# Altium schematic symbol library Conectores.SchLib: 54 symbols
Pins are listed as number, name and electrical type; pins without a type are passive.

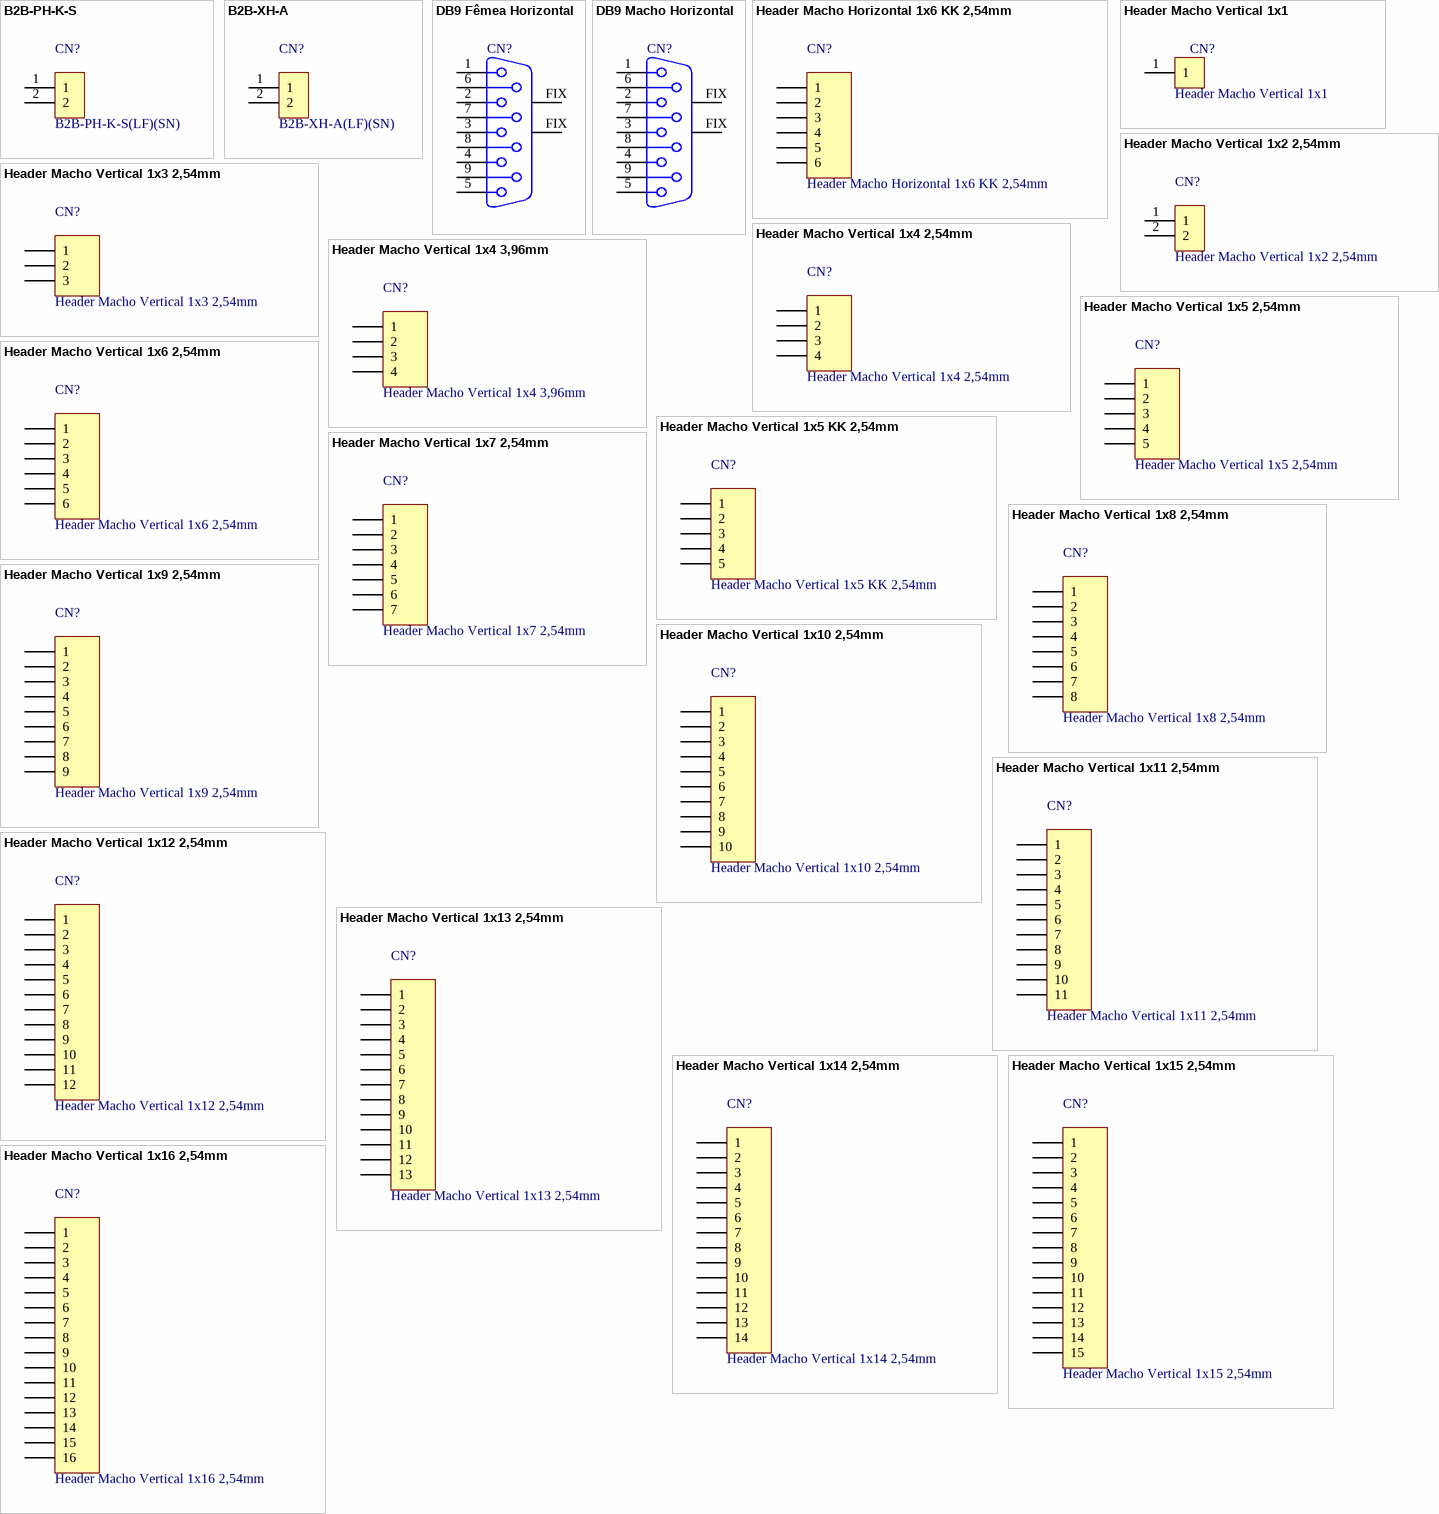
[diagram p0: symbols B2B-PH-K-S to Header Macho Vertical 1x16 2,54mm]

## B2B-PH-K-S
designator CN?  Valor/Partnumber: B2B-PH-K-S(LF)(SN)  (hidden comment: B2B-PH-K-S)
CONN HEADER VERT 2POS 2MM; Montagem: PTH
footprint B2B-PH-K-S (Footprint not found)
pins: 1, 2

## B2B-XH-A
designator CN?  Valor/Partnumber: B2B-XH-A(LF)(SN)  (hidden comment: B2B-XH-A)
CONN HEADER VERT 2POS 2.5MM; Montagem: PTH
footprint B2B-XH-A
pins: 1, 2

## DB9 Fêmea Horizontal
designator CN?  (value not drawn)
Montagem: PTH; Valor/Partnumber: DB9 Fêmea Horizontal
footprint DB9_Female_PTH (DB9, Female, 90º, PTH)
pins: 1, 2, 3, 4, 5, 6, 7, 8, 9, FIX MH2, FIX MH1

## DB9 Macho Horizontal
designator CN?  (value not drawn)
Montagem: PTH; Valor/Partnumber: DB9 Macho Horizontal
footprint DB9_Male_PTH (DB9, Male, 90º, PTH)
pins: 1, 2, 3, 4, 5, 6, 7, 8, 9, FIX MH2, FIX MH1

## Header Macho Horizontal 1x6 KK 2,54mm
designator CN?
Header Macho Horizontal com trava KK 1x6 2,54mm; Montagem: PTH; Valor/Partnumber: Header Macho Horizontal 1x6 KK 2,54mm
footprint HDR1X6HKK (Connector; Header; 6 Position; Right Angle)
pins: 1, 2, 3, 4, 5, 6

## Header Macho Vertical 1x1
designator CN?
Montagem: PTH; Valor/Partnumber: Header Macho Vertical 1x1
footprint HDR1X1 (Connector; Header; 1 Position)
pins: 1

## Header Macho Vertical 1x2 2,54mm
designator CN?
Montagem: PTH; Valor/Partnumber: Header Macho Vertical 1x2 2,54mm
footprint HDR1X2 (Connector; Header; 2 Position)
pins: 1, 2

## Header Macho Vertical 1x3 2,54mm
designator CN?
Montagem: PTH; Valor/Partnumber: Header Macho Vertical 1x3 2,54mm
footprint HDR1X3 (Connector; Header; 3 Position)
pins: 1, 2, 3

## Header Macho Vertical 1x4 2,54mm
designator CN?
Montagem: PTH; Valor/Partnumber: Header Macho Vertical 1x4 2,54mm
footprint HDR1X4 (Connector; Header; 4 Position)
pins: 1, 2, 3, 4

## Header Macho Vertical 1x4 3,96mm
designator CN?
Montagem: PTH; Valor/Partnumber: Header Macho Vertical 1x4 3,96mm
footprint HDR1X4KKzao (3.96)
pins: 1, 2, 3, 4

## Header Macho Vertical 1x5 2,54mm
designator CN?
Montagem: PTH; Valor/Partnumber: Header Macho Vertical 1x5 2,54mm
footprint HDR1X5 (Connector; Header; 5 Position)
pins: 1, 2, 3, 4, 5

## Header Macho Vertical 1x5 KK 2,54mm
designator CN?
Header Macho Vertical com trava KK 1x5 2,54mm; Montagem: PTH; Valor/Partnumber: Header Macho Vertical 1x5 KK 2,54mm
footprint HDR1X5KK (Connector; Header; 5 Position)
pins: 1, 2, 3, 4, 5

## Header Macho Vertical 1x6 2,54mm
designator CN?
Montagem: PTH; Valor/Partnumber: Header Macho Vertical 1x6 2,54mm
footprint HDR1X6 (Connector; Header; 6 Position)
pins: 1, 2, 3, 4, 5, 6

## Header Macho Vertical 1x7 2,54mm
designator CN?
Montagem: PTH; Valor/Partnumber: Header Macho Vertical 1x7 2,54mm
footprint HDR1X7 (Connector; Header; 7 Position)
pins: 1, 2, 3, 4, 5, 6, 7

## Header Macho Vertical 1x8 2,54mm
designator CN?
Montagem: PTH; Valor/Partnumber: Header Macho Vertical 1x8 2,54mm
footprint HDR1X8 (Connector; Header; 8 Position)
pins: 1, 2, 3, 4, 5, 6, 7, 8

## Header Macho Vertical 1x9 2,54mm
designator CN?
Montagem: PTH; Valor/Partnumber: Header Macho Vertical 1x9 2,54mm
footprint HDR1X9 (Connector; Header; 9 Position)
pins: 1, 2, 3, 4, 5, 6, 7, 8, 9

## Header Macho Vertical 1x10 2,54mm
designator CN?
Montagem: PTH; Valor/Partnumber: Header Macho Vertical 1x10 2,54mm
footprint HDR1X10 (Connector; Header; 10 Position)
pins: 1, 2, 3, 4, 5, 6, 7, 8, 9, 10

## Header Macho Vertical 1x11 2,54mm
designator CN?
Montagem: PTH; Valor/Partnumber: Header Macho Vertical 1x11 2,54mm
footprint HDR1X11 (Connector; Header; 11 Position)
pins: 1, 2, 3, 4, 5, 6, 7, 8, 9, 10, 11

## Header Macho Vertical 1x12 2,54mm
designator CN?
Montagem: PTH; Valor/Partnumber: Header Macho Vertical 1x12 2,54mm
footprint HDR1X12 (Connector; Header; 12 Position)
pins: 1, 2, 3, 4, 5, 6, 7, 8, 9, 10, 11, 12

## Header Macho Vertical 1x13 2,54mm
designator CN?
Montagem: PTH; Valor/Partnumber: Header Macho Vertical 1x13 2,54mm
footprint HDR1X13 (Connector; Header; 13 Position)
pins: 1, 2, 3, 4, 5, 6, 7, 8, 9, 10, 11, 12, 13

## Header Macho Vertical 1x14 2,54mm
designator CN?
Montagem: PTH; Valor/Partnumber: Header Macho Vertical 1x14 2,54mm
footprint HDR1X14 (Connector; Header; 14 Position)
pins: 1, 2, 3, 4, 5, 6, 7, 8, 9, 10, 11, 12, 13, 14

## Header Macho Vertical 1x15 2,54mm
designator CN?
Montagem: PTH; Valor/Partnumber: Header Macho Vertical 1x15 2,54mm
footprint HDR1X15 (Connector; Header; 15 Position)
pins: 1, 2, 3, 4, 5, 6, 7, 8, 9, 10, 11, 12, 13, 14, 15

## Header Macho Vertical 1x16 2,54mm
designator CN?
Montagem: PTH; Valor/Partnumber: Header Macho Vertical 1x16 2,54mm
footprint HDR1X16 (Connector; Header; 16 Position)
pins: 1, 2, 3, 4, 5, 6, 7, 8, 9, 10, 11, 12, 13, 14, 15, 16

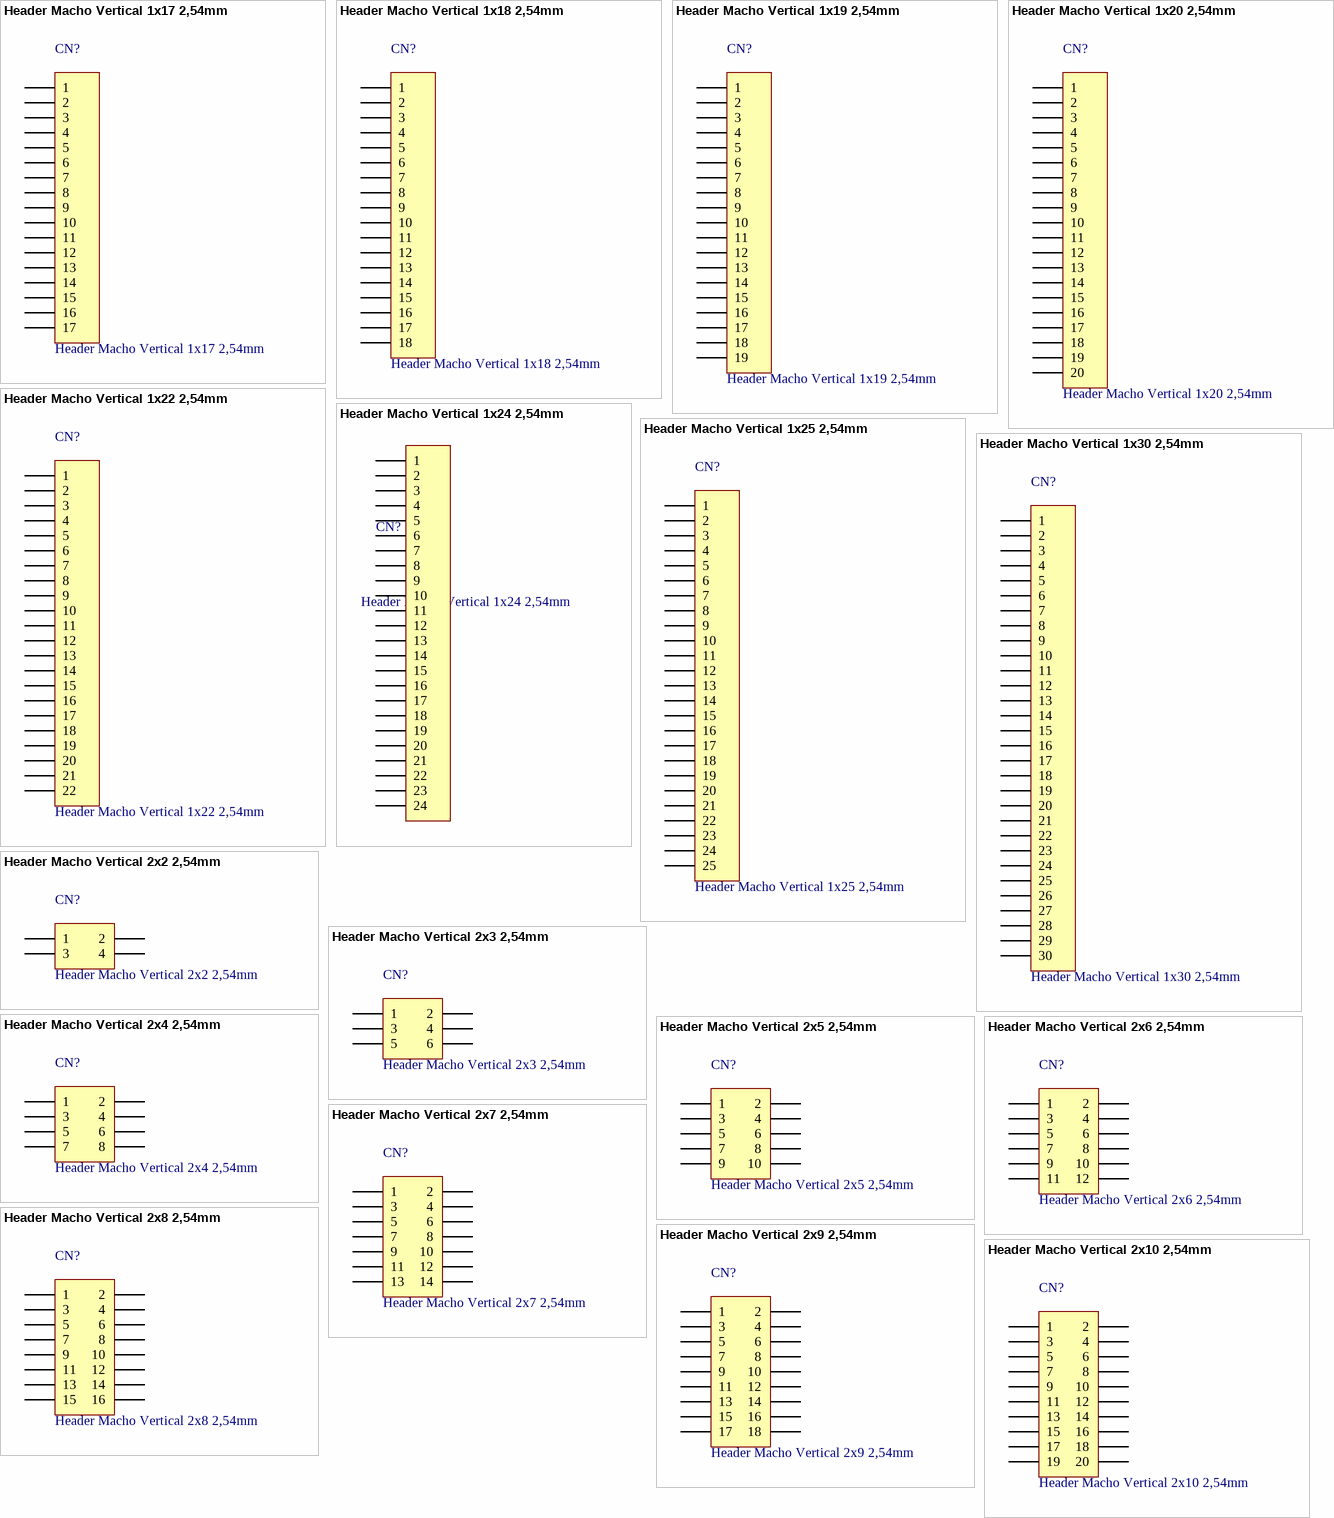
[diagram p1: symbols Header Macho Vertical 1x17 2,54mm to Header Macho Vertical 2x10 2,54mm]

## Header Macho Vertical 1x17 2,54mm
designator CN?
Montagem: PTH; Valor/Partnumber: Header Macho Vertical 1x17 2,54mm
footprint HDR1X17 (Connector; Header; 17 Position)
pins: 1, 2, 3, 4, 5, 6, 7, 8, 9, 10, 11, 12, 13, 14, 15, 16, 17

## Header Macho Vertical 1x18 2,54mm
designator CN?
Montagem: PTH; Valor/Partnumber: Header Macho Vertical 1x18 2,54mm
footprint HDR1X18 (Connector; Header; 18 Position)
pins: 1, 2, 3, 4, 5, 6, 7, 8, 9, 10, 11, 12, 13, 14, 15, 16, 17, 18

## Header Macho Vertical 1x19 2,54mm
designator CN?
Montagem: PTH; Valor/Partnumber: Header Macho Vertical 1x19 2,54mm
footprint HDR1X19 (Connector; Header; 19 Position)
pins: 1, 2, 3, 4, 5, 6, 7, 8, 9, 10, 11, 12, 13, 14, 15, 16, 17, 18, 19

## Header Macho Vertical 1x20 2,54mm
designator CN?
Montagem: PTH; Valor/Partnumber: Header Macho Vertical 1x20 2,54mm
footprint HDR1X20 (Connector; Header; 20 Position)
pins: 1, 2, 3, 4, 5, 6, 7, 8, 9, 10, 11, 12, 13, 14, 15, 16, 17, 18, 19, 20

## Header Macho Vertical 1x22 2,54mm
designator CN?
Montagem: PTH; Valor/Partnumber: Header Macho Vertical 1x22 2,54mm
footprint HDR1X22 (Connector; Header; 22 Position)
pins: 1, 2, 3, 4, 5, 6, 7, 8, 9, 10, 11, 12, 13, 14, 15, 16, 17, 18, 19, 20, 21, 22

## Header Macho Vertical 1x24 2,54mm
designator CN?
Montagem: PTH; Valor/Partnumber: Header Macho Vertical 1x24 2,54mm
footprint HDR1X24 (Connector; Header; 24 Position)
pins: 1, 2, 3, 4, 5, 6, 7, 8, 9, 10, 11, 12, 13, 14, 15, 16, 17, 18, 19, 20, 21, 22, 23, 24

## Header Macho Vertical 1x25 2,54mm
designator CN?
Montagem: PTH; Valor/Partnumber: Header Macho Vertical 1x25 2,54mm
footprint HDR1X25 (Connector; Header; 25 Position)
pins: 1, 2, 3, 4, 5, 6, 7, 8, 9, 10, 11, 12, 13, 14, 15, 16, 17, 18, 19, 20, 21, 22, 23, 24, 25

## Header Macho Vertical 1x30 2,54mm
designator CN?
Montagem: PTH; Valor/Partnumber: Header Macho Vertical 1x30 2,54mm
footprint HDR1X30 (Connector; Header; 30 Position)
pins: 1, 2, 3, 4, 5, 6, 7, 8, 9, 10, 11, 12, 13, 14, 15, 16, 17, 18, 19, 20, 21, 22, 23, 24, 25, 26, 27, 28, 29, 30

## Header Macho Vertical 2x2 2,54mm
designator CN?
Montagem: PTH; Valor/Partnumber: Header Macho Vertical 2x2 2,54mm
footprint HDR2X2 (Connector; Header; 2x2 Position)
pins: 1, 2, 3, 4

## Header Macho Vertical 2x3 2,54mm
designator CN?
Montagem: PTH; Valor/Partnumber: Header Macho Vertical 2x3 2,54mm
footprint HDR2X3 (Connector; Header; 3x2 Position)
pins: 1, 2, 3, 4, 5, 6

## Header Macho Vertical 2x4 2,54mm
designator CN?
Montagem: PTH; Valor/Partnumber: Header Macho Vertical 2x4 2,54mm
footprint HDR2X4 (Connector; Header; 4x2 Position)
pins: 1, 2, 3, 4, 5, 6, 7, 8

## Header Macho Vertical 2x5 2,54mm
designator CN?
Montagem: PTH; Valor/Partnumber: Header Macho Vertical 2x5 2,54mm
footprint HDR2X5 (Connector; Header; 5x2 Position)
pins: 1, 2, 3, 4, 5, 6, 7, 8, 9, 10

## Header Macho Vertical 2x6 2,54mm
designator CN?
Montagem: PTH; Valor/Partnumber: Header Macho Vertical 2x6 2,54mm
footprint HDR2X6 (Connector; Header; 6x2 Position)
pins: 1, 2, 3, 4, 5, 6, 7, 8, 9, 10, 11, 12

## Header Macho Vertical 2x7 2,54mm
designator CN?
Montagem: PTH; Valor/Partnumber: Header Macho Vertical 2x7 2,54mm
footprint HDR2X7 (Connector; Header; 7x2 Position)
pins: 1, 2, 3, 4, 5, 6, 7, 8, 9, 10, 11, 12, 13, 14

## Header Macho Vertical 2x8 2,54mm
designator CN?
Montagem: PTH; Valor/Partnumber: Header Macho Vertical 2x8 2,54mm
footprint HDR2X8 (Connector; Header; 8x2 Position)
pins: 1, 2, 3, 4, 5, 6, 7, 8, 9, 10, 11, 12, 13, 14, 15, 16

## Header Macho Vertical 2x9 2,54mm
designator CN?
Montagem: PTH; Valor/Partnumber: Header Macho Vertical 2x9 2,54mm
footprint HDR2X9 (Connector; Header; 9x2 Position)
pins: 1, 2, 3, 4, 5, 6, 7, 8, 9, 10, 11, 12, 13, 14, 15, 16, 17, 18

## Header Macho Vertical 2x10 2,54mm
designator CN?
Montagem: PTH; Valor/Partnumber: Header Macho Vertical 2x10 2,54mm
footprint HDR2X10 (Connector; Header; 10x2 Position)
pins: 1, 2, 3, 4, 5, 6, 7, 8, 9, 10, 11, 12, 13, 14, 15, 16, 17, 18, 19, 20

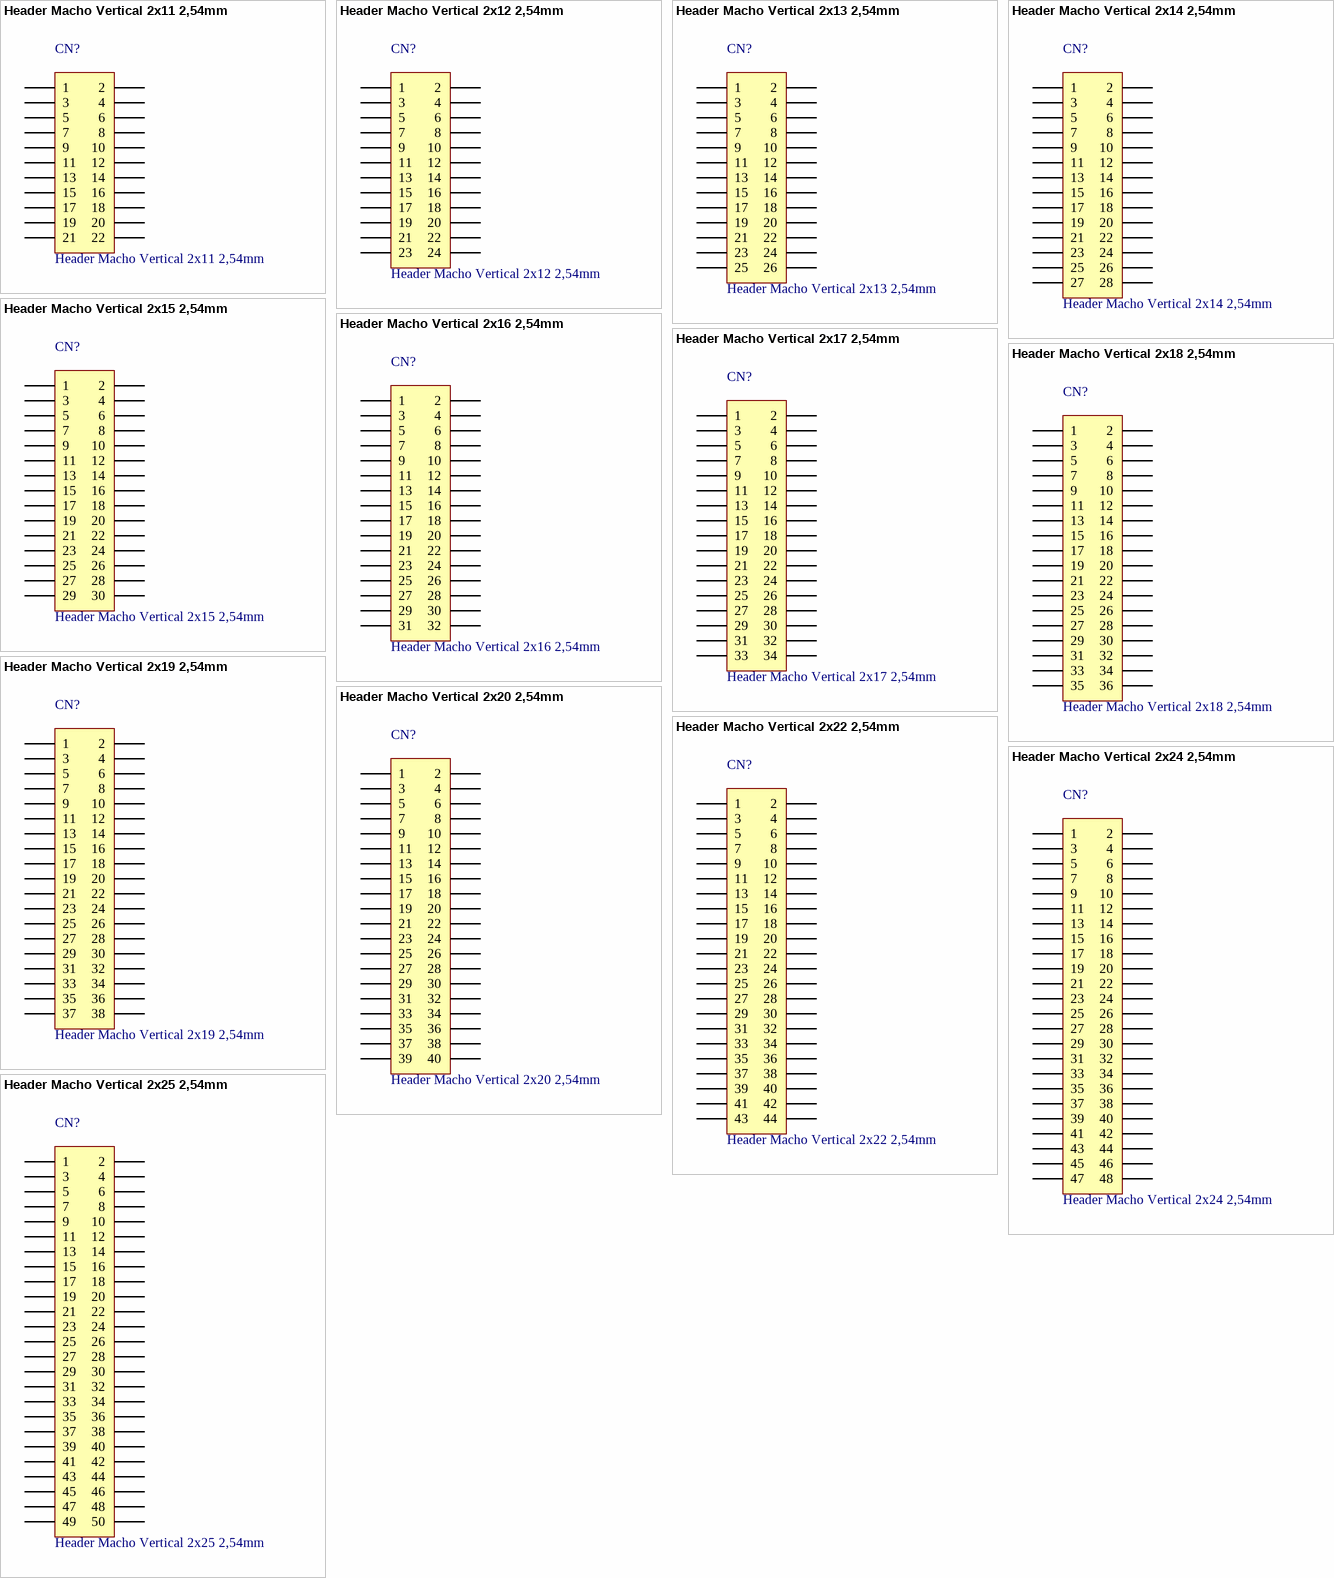
[diagram p2: symbols Header Macho Vertical 2x11 2,54mm to Header Macho Vertical 2x25 2,54mm]

## Header Macho Vertical 2x11 2,54mm
designator CN?
Montagem: PTH; Valor/Partnumber: Header Macho Vertical 2x11 2,54mm
footprint HDR2X11 (Connector; Header; 11x2 Position)
pins: 1, 2, 3, 4, 5, 6, 7, 8, 9, 10, 11, 12, 13, 14, 15, 16, 17, 18, 19, 20, 21, 22

## Header Macho Vertical 2x12 2,54mm
designator CN?
Montagem: PTH; Valor/Partnumber: Header Macho Vertical 2x12 2,54mm
footprint HDR2X12 (Connector; Header; 12x2 Position)
pins: 1, 2, 3, 4, 5, 6, 7, 8, 9, 10, 11, 12, 13, 14, 15, 16, 17, 18, 19, 20, 21, 22, 23, 24

## Header Macho Vertical 2x13 2,54mm
designator CN?
Montagem: PTH; Valor/Partnumber: Header Macho Vertical 2x13 2,54mm
footprint HDR2X13 (Connector; Header; 13x2 Position)
pins: 1, 2, 3, 4, 5, 6, 7, 8, 9, 10, 11, 12, 13, 14, 15, 16, 17, 18, 19, 20, 21, 22, 23, 24, 25, 26

## Header Macho Vertical 2x14 2,54mm
designator CN?
Montagem: PTH; Valor/Partnumber: Header Macho Vertical 2x14 2,54mm
footprint HDR2X14 (Connector; Header; 14x2 Position)
pins: 1, 2, 3, 4, 5, 6, 7, 8, 9, 10, 11, 12, 13, 14, 15, 16, 17, 18, 19, 20, 21, 22, 23, 24, 25, 26, 27, 28

## Header Macho Vertical 2x15 2,54mm
designator CN?
Montagem: PTH; Valor/Partnumber: Header Macho Vertical 2x15 2,54mm
footprint HDR2X15 (Connector; Header; 15x2 Position)
pins: 1, 2, 3, 4, 5, 6, 7, 8, 9, 10, 11, 12, 13, 14, 15, 16, 17, 18, 19, 20, 21, 22, 23, 24, 25, 26, 27, 28, 29, 30

## Header Macho Vertical 2x16 2,54mm
designator CN?
Montagem: PTH; Valor/Partnumber: Header Macho Vertical 2x16 2,54mm
footprint HDR2X16 (Connector; Header; 16x2 Position)
pins: 1, 2, 3, 4, 5, 6, 7, 8, 9, 10, 11, 12, 13, 14, 15, 16, 17, 18, 19, 20, 21, 22, 23, 24, 25, 26, 27, 28, 29, 30, 31, 32

## Header Macho Vertical 2x17 2,54mm
designator CN?
Montagem: PTH; Valor/Partnumber: Header Macho Vertical 2x17 2,54mm
footprint HDR2X17 (Connector; Header; 17x2 Position)
pins: 1, 2, 3, 4, 5, 6, 7, 8, 9, 10, 11, 12, 13, 14, 15, 16, 17, 18, 19, 20, 21, 22, 23, 24, 25, 26, 27, 28, 29, 30, 31, 32, 33, 34

## Header Macho Vertical 2x18 2,54mm
designator CN?
Montagem: PTH; Valor/Partnumber: Header Macho Vertical 2x18 2,54mm
footprint HDR2X18 (Connector; Header; 18x2 Position)
pins: 1, 2, 3, 4, 5, 6, 7, 8, 9, 10, 11, 12, 13, 14, 15, 16, 17, 18, 19, 20, 21, 22, 23, 24, 25, 26, 27, 28, 29, 30, 31, 32, 33, 34, 35, 36

## Header Macho Vertical 2x19 2,54mm
designator CN?
Montagem: PTH; Valor/Partnumber: Header Macho Vertical 2x19 2,54mm
footprint HDR2X19 (Connector; Header; 19x2 Position)
pins: 1, 2, 3, 4, 5, 6, 7, 8, 9, 10, 11, 12, 13, 14, 15, 16, 17, 18, 19, 20, 21, 22, 23, 24, 25, 26, 27, 28, 29, 30, 31, 32, 33, 34, 35, 36, 37, 38

## Header Macho Vertical 2x20 2,54mm
designator CN?
Montagem: PTH; Valor/Partnumber: Header Macho Vertical 2x20 2,54mm
footprint HDR2X20 (Connector; Header; 20x2 Position)
pins: 1, 2, 3, 4, 5, 6, 7, 8, 9, 10, 11, 12, 13, 14, 15, 16, 17, 18, 19, 20, 21, 22, 23, 24, 25, 26, 27, 28, 29, 30, 31, 32, 33, 34, 35, 36, 37, 38, 39, 40

## Header Macho Vertical 2x22 2,54mm
designator CN?
Montagem: PTH; Valor/Partnumber: Header Macho Vertical 2x22 2,54mm
footprint HDR2X22 (Connector; Header; 22x2 Position)
pins: 1, 2, 3, 4, 5, 6, 7, 8, 9, 10, 11, 12, 13, 14, 15, 16, 17, 18, 19, 20, 21, 22, 23, 24, 25, 26, 27, 28, 29, 30, 31, 32, 33, 34, 35, 36, 37, 38, 39, 40, 41, 42, 43, 44

## Header Macho Vertical 2x24 2,54mm
designator CN?
Montagem: PTH; Valor/Partnumber: Header Macho Vertical 2x24 2,54mm
footprint HDR2X24 (Connector; Header; 24x2 Position)
pins: 1, 2, 3, 4, 5, 6, 7, 8, 9, 10, 11, 12, 13, 14, 15, 16, 17, 18, 19, 20, 21, 22, 23, 24, 25, 26, 27, 28, 29, 30, 31, 32, 33, 34, 35, 36, 37, 38, 39, 40, 41, 42, 43, 44, 45, 46, 47, 48

## Header Macho Vertical 2x25 2,54mm
designator CN?
Montagem: PTH; Valor/Partnumber: Header Macho Vertical 2x25 2,54mm
footprint HDR2X25 (Connector; Header; 25x2 Position)
pins: 1, 2, 3, 4, 5, 6, 7, 8, 9, 10, 11, 12, 13, 14, 15, 16, 17, 18, 19, 20, 21, 22, 23, 24, 25, 26, 27, 28, 29, 30, 31, 32, 33, 34, 35, 36, 37, 38, 39, 40, 41, 42, 43, 44, 45, 46, 47, 48, 49, 50

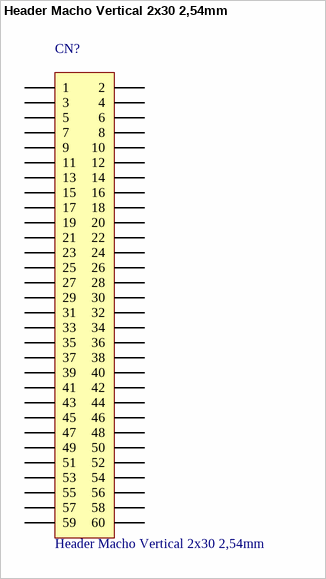
[diagram p3: symbol Header Macho Vertical 2x30 2,54mm]

## Header Macho Vertical 2x30 2,54mm
designator CN?
Montagem: PTH; Valor/Partnumber: Header Macho Vertical 2x30 2,54mm
footprint HDR2X30 (Connector; Header; 30x2 Position)
pins: 1, 2, 3, 4, 5, 6, 7, 8, 9, 10, 11, 12, 13, 14, 15, 16, 17, 18, 19, 20, 21, 22, 23, 24, 25, 26, 27, 28, 29, 30, 31, 32, 33, 34, 35, 36, 37, 38, 39, 40, 41, 42, 43, 44, 45, 46, 47, 48, 49, 50, 51, 52, 53, 54, 55, 56, 57, 58, 59, 60